# EAGLE library part 74LV595PW (library vikc-ic)
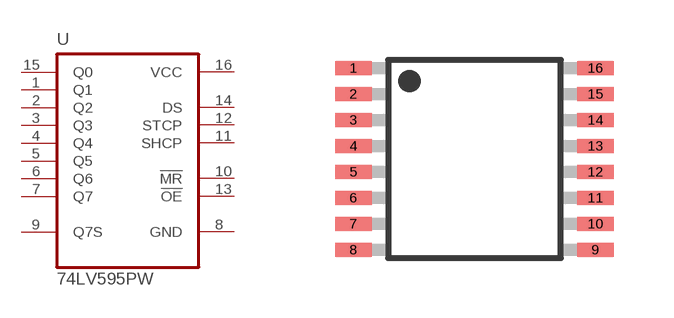
[diagram p3: symbol with the pads of TSSOP16-PW; footprint TSSOP16-PW]

Designator prefix U

## 74LV595PW  [TSSOP16-PW]
1  Q1  hiz
2  Q2  hiz
3  Q3  hiz
4  Q4  hiz
5  Q5  hiz
6  Q6  hiz
7  Q7  hiz
8  GND  pwr
9  Q7S  hiz
10  !MR  in
11  SHCP  in
12  STCP  in
13  !OE  in
14  DS  in
15  Q0  hiz
16  VCC  pwr

## Footprint TSSOP16-PW (pad centres in mm)
PLASTIC SMALL-OUTLINE PACKAGE PW (R-PDSO-G16) Source: www.ti.com .. ADS7828.pdf
smd 0.9 x 0.35: 1 -3.025,2.275; 2 -3.025,1.625; 3 -3.025,0.975; 4 -3.025,0.325; 5 -3.025,-0.325; 6 -3.025,-0.975; 7 -3.025,-1.625; 8 -3.025,-2.275; 9 3.025,-2.275; 10 3.025,-1.625; 11 3.025,-0.975; 12 3.025,-0.325; 13 3.025,0.325; 14 3.025,0.975; 15 3.025,1.625; 16 3.025,2.275